# Altium footprint library QFN50P300X300X100-17N.PcbLib: 2 footprints
Each footprint in its own frame and in the unit in brackets; x right, y up, seen from the top. Pads: shape width x height; smd on the part's side, far side on the other; paste and mask are expansions set on the pad; w line width, h text height; cw(c..) or ccw(c..) is an arc to the next point about the centre after c.
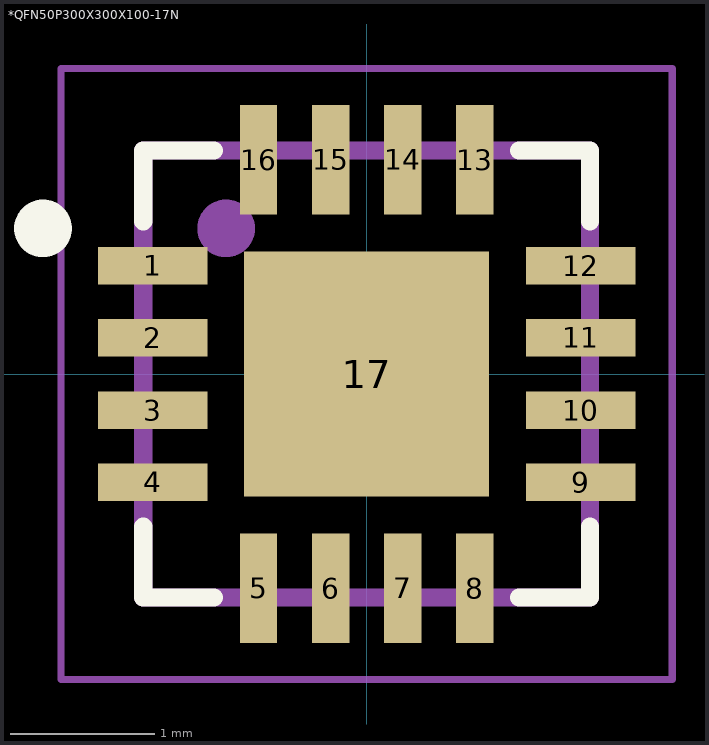
[diagram p0: the footprints below, top view; thin cyan lines are the x and y axes]

## *QFN50P300X300X100-17N [mm]
pads (17):
  rect 0.76x0.26 smd: 1(-1.485,0.75) 2(-1.485,0.25) 3(-1.485,-0.25) 4(-1.485,-0.75) 9(1.485,-0.75) 10(1.485,-0.25) 11(1.485,0.25) 12(1.485,0.75)
  rect 0.26x0.76 smd: 5(-0.75,-1.485) 6(-0.25,-1.485) 7(0.25,-1.485) 8(0.75,-1.485) 13(0.75,1.485) 14(0.25,1.485) 15(-0.25,1.485) 16(-0.75,1.485)
  rect 1.7x1.7 smd: 17(0,0)
Top Overlay:
  circle w0.3: c-2.245,1.01 r0.05
  lines w0.127: -1.55,-1.06 -1.55,-1.55 -1.06,-1.55 ; -1.55,1.06 -1.55,1.55 -1.06,1.55 ; 1.06,-1.55 1.55,-1.55 1.55,-1.06 ; 1.06,1.55 1.55,1.55 1.55,1.06
Top Paste:
  region: -0.538,0.538 0.538,0.538 0.538,-0.538 -0.538,-0.538
Mechanical 4:
  circle w0.3: c-0.975,1.01 r0.05
  circle w0.3: c-0.975,1.01 r0.05
  lines w0.127: -1.55,-1.55 1.55,-1.55 ; -1.55,-1.55 -1.55,1.55 ; -1.55,-1.55 1.55,-1.55 ; -1.55,-1.55 -1.55,1.55 ; -1.55,1.55 1.55,1.55 ; -1.55,1.55 1.55,1.55 ; 1.55,-1.55 1.55,1.55 ; 1.55,-1.55 1.55,1.55
Mechanical 16:
  lines w0.05: -2.12,-2.12 2.12,-2.12 2.12,2.12 -2.12,2.12 -2.12,-2.12
3D body "TS30042-M050QFNR.STEP": height 0.98, standoff -0.02, extent -1.5,-1.5 1.5,1.5

## PCBComponent_1 [mm]